# EAGLE library part LM3407 (library PowerComponents)
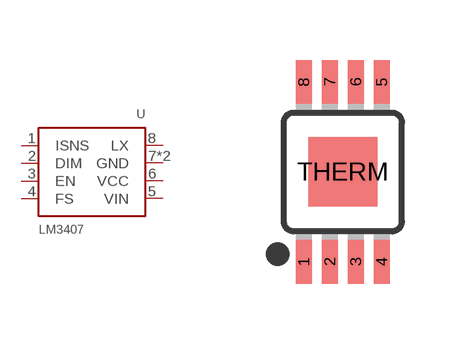
[diagram p5: symbol with the pads of MSOP8-GND; footprint MSOP8-GND]

Designator prefix U

## LM3407  [MSOP8-GND]
1  ISNS
2  DIM
3  EN
4  FS
5  VIN
6  VCC
7  GND
8  LX
THERM  GND

## Footprint MSOP8-GND (pad centres in mm)
8M, 8-Lead, 0.118" Wide, Miniature Small Outline Package MSOP 8M-Package doc1097.pdf
smd 0.4 x 1.1: 1 -0.975,-2.25; 2 -0.325,-2.25; 3 0.325,-2.25; 4 0.975,-2.25; 5 0.975,2.25; 6 0.325,2.25; 7 -0.325,2.25; 8 -0.975,2.25
smd 1.727 x 1.727: THERM 0,0